# EAGLE library part L298N (library GoBabyGoControleBordLib)
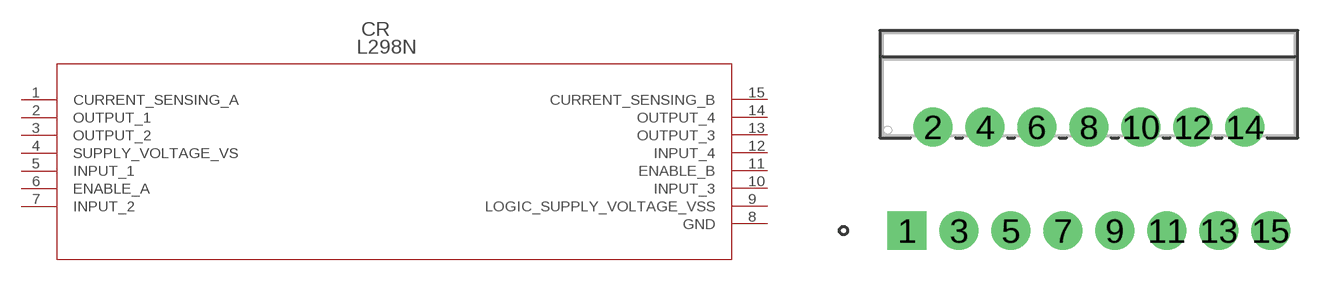
[diagram p0: symbol with the pads of MULTIWATT15_V_STM; footprint MULTIWATT15_V_STM]

Designator prefix CR

## L298NMULTIWATT15_V_STM (COPYRIGHT: Copyright (C) 2023 Ultra Librarian. All rights reserved.; MANUFACTURER_PART_NUMBER: L298N; MFR_NAME: STMicroelectronics)  [MULTIWATT15_V_STM]
1  CURRENT_SENSING_A  in
2  OUTPUT_1  out
3  OUTPUT_2  out
4  SUPPLY_VOLTAGE_VS  pwr
5  INPUT_1  in
6  ENABLE_A  in
7  INPUT_2  in
8  GND  pas
9  LOGIC_SUPPLY_VOLTAGE_VSS  pwr
10  INPUT_3  in
11  ENABLE_B  in
12  INPUT_4  in
13  OUTPUT_3  out
14  OUTPUT_4  out
15  CURRENT_SENSING_B  in

## Footprint MULTIWATT15_V_STM (pad centres in mm)
drill 1.27 pad 1.778 square: 1 0,0
drill 1.27 pad 1.778: 2 1.27,5.08; 3 2.54,0; 4 3.81,5.08; 5 5.08,0; 6 6.35,5.08; 7 7.62,0; 8 8.89,5.08; 9 10.16,0; 10 11.43,5.08; 11 12.7,0; 12 13.97,5.08; 13 15.24,0; 14 16.51,5.08; 15 17.78,0